# EAGLE library part ZDM-A1281-A2 (library ee2parts)
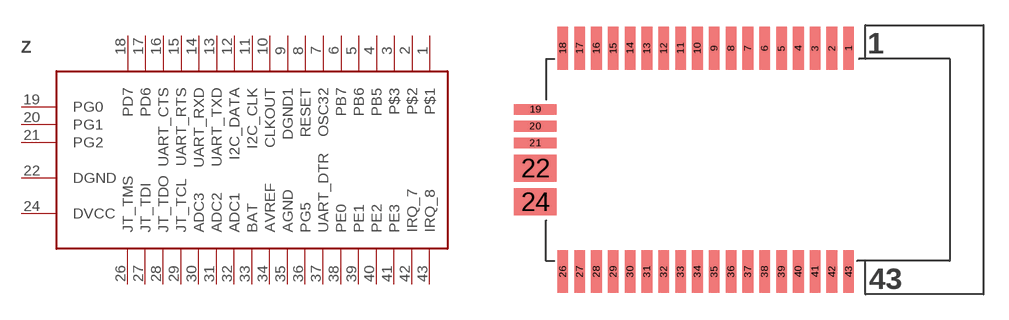
[diagram p9: symbol with the pads of ZIGSMD; footprint ZIGSMD]

Designator prefix Z

## ZDM-A1281-A2N  [ZIGSMD]
1  P$1  nc
2  P$2  nc
3  P$3  nc
4  PB5
5  PB6
6  PB7
7  OSC32  out
8  RESET  in
9  DGND1
10  CLKOUT  out
11  I2C_CLK  out
12  I2C_DATA
13  UART_TXD  in
14  UART_RXD  out
15  UART_RTS  in
16  UART_CTS  out
17  PD6
18  PD7
19  PG0
20  PG1
21  PG2
22  DGND
24  DVCC
26  JT_TMS
27  JT_TDI
28  JT_TDO
29  JT_TCL
30  ADC3  in
31  ADC2  in
32  ADC1  in
33  BAT  in
34  AVREF
35  AGND
36  PG5
37  UART_DTR  in
38  PE0
39  PE1
40  PE2
41  PE3
42  IRQ_7  in
43  IRQ_8  in

## Footprint ZIGSMD (pad centres in mm)
smd 0.635 x 2.54: 1 7,6.635; 2 6,6.635; 3 5,6.635; 4 4,6.635; 5 3,6.635; 6 2,6.635; 7 1,6.635; 8 0,6.635; 9 -1,6.635; 10 -2,6.635; 11 -3,6.635; 12 -4,6.635; 13 -5,6.635; 14 -6,6.635; 15 -7,6.635; 16 -8,6.635; 17 -9,6.635; 18 -10,6.635; 26 -10,-6.635; 27 -9,-6.635; 28 -8,-6.635; 29 -7,-6.635; 30 -6,-6.635; 31 -5,-6.635; 32 -4,-6.635; 33 -3,-6.635; 34 -2,-6.635; 35 -1,-6.635; 36 0,-6.635; 37 1,-6.635; 38 2,-6.635; 39 3,-6.635; 40 4,-6.635; 41 5,-6.635; 42 6,-6.635; 43 7,-6.635
smd 2.54 x 0.635: 19 -11.635,3; 20 -11.635,2; 21 -11.635,1
smd 2.54 x 1.6: 22 -11.635,-0.5; 24 -11.635,-2.5